# EAGLE library part IN28J60 (library in28j60)
Stand-alone Ethernet Controller Module
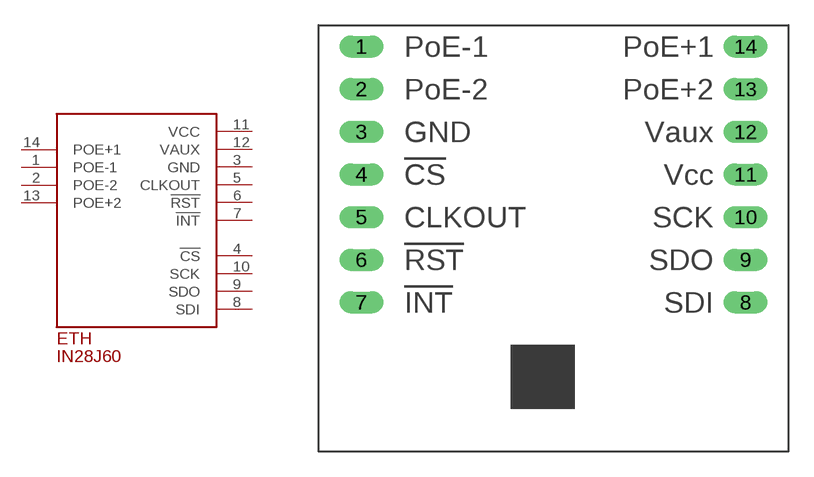
[diagram p0: symbol with the pads of DIL; footprint DIL]

Designator prefix ETH

## IN28J60  [DIL]
1  POE-1  out
2  POE-2  out
3  GND  pwr
4  !CS!  in
5  CLKOUT  out
6  !RST!  in
7  !INT!  out
8  SDI  in
9  SDO  out
10  SCK  in
11  VCC  pwr
12  VAUX
13  POE+2  out
14  POE+1  out

## Footprint DIL (pad centres in mm)
drill 0.8 long: 1 -10.795,7.62; 2 -10.795,5.08; 3 -10.795,2.54; 4 -10.795,0; 5 -10.795,-2.54; 6 -10.795,-5.08; 7 -10.795,-7.62; 8 12.065,-7.62; 9 12.065,-5.08; 10 12.065,-2.54; 11 12.065,0; 12 12.065,2.54; 13 12.065,5.08; 14 12.065,7.62